# Altium footprint library Z84C00-4EC.PcbLib: 1 footprints
Each footprint in its own frame and in the unit in brackets; x right, y up, seen from the top. Pads: shape width x height; smd on the part's side, far side on the other; paste and mask are expansions set on the pad; w line width, h text height; cw(c..) or ccw(c..) is an arc to the next point about the centre after c.
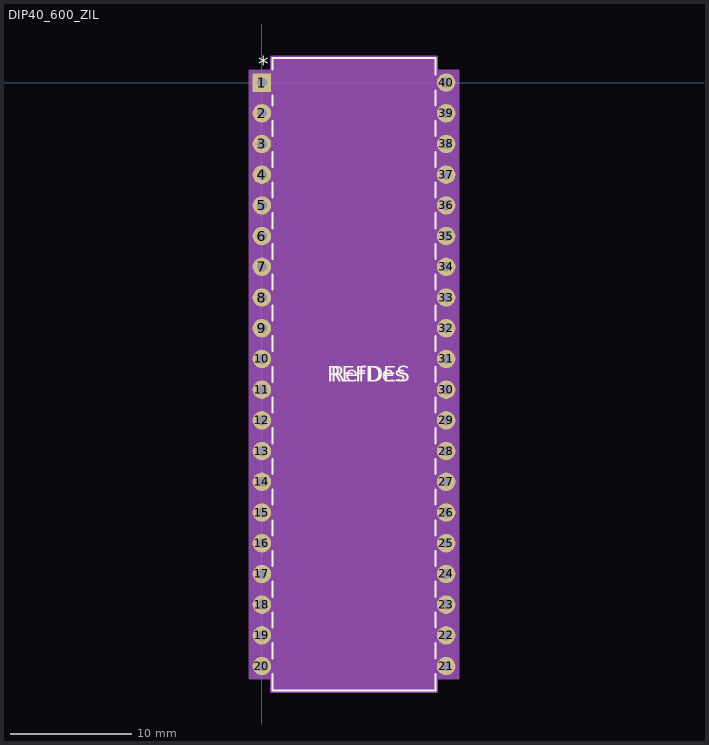
[diagram p0: the footprint, top view; thin cyan lines are the x and y axes]

## DIP40_600_ZIL [mil]
pads (40):
  rect 60x60 / inner round 60 / far side rect 60x60 hole 32 paste-30 mask+0: 1(0,0)
  round 60 hole 32 paste-30 mask+0: 2(0,-100) 3(0,-200) 4(0,-300) 5(0,-400) 6(0,-500) 7(0,-600) 8(0,-700) 9(0,-800) 10(0,-900) 11(0,-1000) 12(0,-1100) 13(0,-1200) 14(0,-1300) 15(0,-1400) 16(0,-1500) 17(0,-1600) 18(0,-1700) 19(0,-1800) 20(0,-1900) 21(600,-1900) 22(600,-1800) 23(600,-1700) 24(600,-1600) 25(600,-1500) 26(600,-1400) 27(600,-1300) 28(600,-1200) 29(600,-1100) 30(600,-1000) 31(600,-900) 32(600,-800) 33(600,-700) 34(600,-600) 35(600,-500) 36(600,-400) 37(600,-300) 38(600,-200) 39(600,-100) 40(600,0)
Top Overlay:
  lines w6: 35,-1925.15 35,-1980 565,-1980 565,-1925.15 ; 35,-1874.85 35,-1825.15 ; 35,-1774.85 35,-1725.15 ; 35,-1674.85 35,-1625.15 ; 35,-1574.85 35,-1525.15 ; 35,-1474.85 35,-1425.15 ; 35,-1374.85 35,-1325.15 ; 35,-1274.85 35,-1225.15 ; 35,-1174.85 35,-1125.15 ; 35,-1074.85 35,-1025.15 ; 35,-974.85 35,-925.15 ; 35,-874.85 35,-825.15 ; 35,-774.85 35,-725.15 ; 35,-674.85 35,-625.15 ; 35,-574.85 35,-525.15 ; 35,-474.85 35,-425.15 ; 35,-374.85 35,-325.15 ; 35,-274.85 35,-225.15 ; 35,-174.85 35,-125.15 ; 35,-74.85 35,-42.11 ; 35,42.11 35,80 565,80 565,25.15 ; 565,-1874.85 565,-1825.15 ; 565,-1774.85 565,-1725.15 ; 565,-1674.85 565,-1625.15 ; 565,-1574.85 565,-1525.15 ; 565,-1474.85 565,-1425.15 ; 565,-1374.85 565,-1325.15 ; 565,-1274.85 565,-1225.15 ; 565,-1174.85 565,-1125.15 ; 565,-1074.85 565,-1025.15 ; 565,-974.85 565,-925.15 ; 565,-874.85 565,-825.15 ; 565,-774.85 565,-725.15 ; 565,-674.85 565,-625.15 ; 565,-574.85 565,-525.15 ; 565,-474.85 565,-425.15 ; 565,-374.85 565,-325.15 ; 565,-274.85 565,-225.15 ; 565,-174.85 565,-125.15 ; 565,-74.85 565,-25.15
  text "*" at -12.5,35 h50
  text "RefDes" at 225,-975 h50
  text "REFDES" at 212.5,-975 h50
Mechanical 13:
  drawing of 165 lines, arcs and shapes, not listed
  text "*" at 37.5,-25 h50
  text "RefDes2" at 212.5,-975 h50
Mechanical 15:
  region: 570,-1940 640,-1940 640,40 570,40 570,85 30,85 30,40 -40,40 -40,-1940 30,-1940 30,-1985 570,-1985
  lines w6: -40,-1940 -40,40 30,40 30,85 570,85 570,40 640,40 640,-1940 570,-1940 570,-1985 30,-1985 30,-1940 -40,-1940
3D body "DIP40_600_ZIL.step": height 205.12, standoff -100, extent -5,-1975 615,75